# EAGLE library part USB_MINI_B (library usbminib)
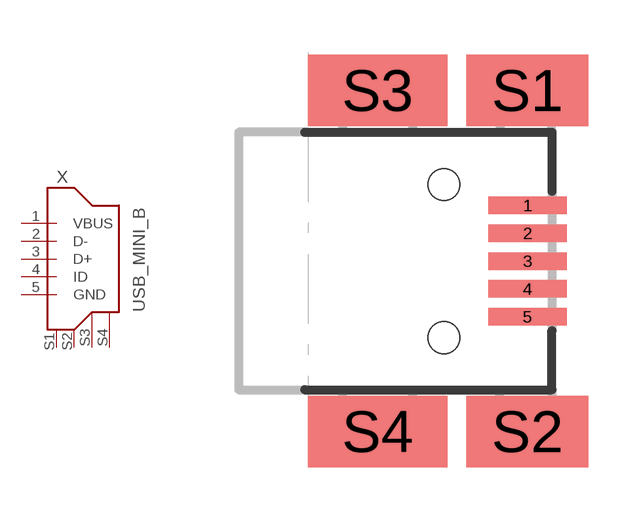
[diagram p0: symbol with the pads of MOLEX67503; footprint MOLEX67503]

Designator prefix X

## USB_MINI_B  [MOLEX67503]
1  VBUS  sup
2  D-
3  D+
4  ID
5  GND  sup
S1  S1  pas
S2  S2  pas
S3  S3  pas
S4  S4  pas

## Footprint MOLEX67503 (pad centres in mm)
smd 2.25 x 0.5: 1 6.3,1.6; 2 6.3,0.8; 3 6.3,0; 4 6.3,-0.8; 5 6.3,-1.6
smd 3.5 x 2.05: S1 6.3,4.9; S2 6.3,-4.9
smd 4 x 2.05: S3 2,4.9; S4 2,-4.9
hole 0.9 at 3.9,2.2
hole 0.9 at 3.9,-2.2